# Altium schematic symbol library Fuses.SchLib: 3 symbols
Pins are listed as number, name and electrical type; pins without a type are passive.

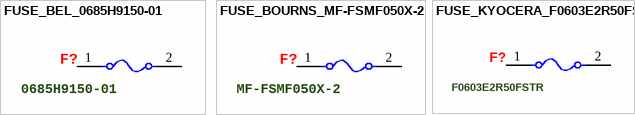
[diagram p0: symbols FUSE_BEL_0685H9150-01 to FUSE_KYOCERA_F0603E2R50FSTR]

## FUSE_BEL_0685H9150-01
designator F?, comment 0685H9150-01
Fuse 15 A 125 V AC 32 V DC Board Mount (Cartridge Style Excluded) Surface Mount 1206 (3216 Metric); Manufacturer: Bel; Current Rating: 15A; Voltage Rating (DC): 32V; Resistance: 2.6mR; Manufacturer Part Number: 0685H9150-01; Category: Fuses; Case/Package: 1206; Min Operating Temperature: -55°C; Max Operating Temperature: 125°C; RoHS Compliant: Yes; ComponentLink1URL: https://www.belfuse.com/resources/datasheets/circuitprotection/ds-cp-c1h-series.pdf; ComponentLink1Description: Datasheet; Supplier 1: Digi-Key; Supplier Part Number 1: 507-1944-1-ND
footprint FUSC3216X08N (Chip Fuse  2-Leads, Body 3.20x1.58mm, IPC Medium Density)
footprint FUSC3216X08L (Chip Fuse, 2-Leads, Body 3.20x1.58mm, IPC High Density)
footprint FUSC3216X08M (Chip Fuse, 2-Leads, Body 3.20x1.58mm, IPC Low Density)
simulation model Fuse (Model Description)
pins: 1 (power), 2 (power)

## FUSE_BOURNS_MF-FSMF050X-2
designator F?, comment MF-FSMF050X-2
Fuse Resettable Polymeric PTC 6V 500 mA Ih Surface Mount 0603 (1608 Metric), Concave; Manufacturer: Bourns; Current Rating: 40A; Resistance: 800mR; Manufacturer Part Number: MF-FSMF050X-2; Category: PTC Resettable Fuses; Case/Package: 0603; Min Operating Temperature: -40°C; Max Operating Temperature: 85°C; Voltage Rating (DC): 6V; RoHS Compliant: Yes; ComponentLink1URL: https://www.bourns.com/docs/Product-Datasheets/mffsmf.pdf; ComponentLink1Description: Datasheet; Supplier 1: Digi-Key; Supplier Part Number 1: MF-FSMF050X-2CT-ND; Supplier 2: Mouser; Supplier Part Number 2: 652-MFFSMF050X-2
footprint FUSC1608X10N (Chip Resistor, 2-Leads, Body 1.65x0.85mm, IPC Medium Density)
footprint FUSC1608X10L (Chip Resistor, 2-Leads, Body 1.65x0.85mm, IPC High Density)
footprint FUSC1608X10M (Chip Resistor, 2-Leads, Body 1.65x0.85mm, IPC Low Density)
simulation model Fuse (Model Description)
pins: 1 (power), 2 (power)

## FUSE_KYOCERA_F0603E2R50FSTR
designator F?, comment F0603E2R50FSTR
Fuse 2.5 A 32 V DC Board Mount (Cartridge Style Excluded) Surface Mount 0603 (1608 Metric); Manufacturer: Kyocera AVX; Current Rating: 2.5A; Voltage Rating (DC): 32V; Resistance: 35mR; Manufacturer Part Number: F0603E2R50FSTR; Category: Fuses; Case/Package: 0603; Min Operating Temperature: -55°C; Max Operating Temperature: 125°C; RoHS Compliant: Yes; ComponentLink1URL: https://datasheets.kyocera-avx.com/AccuGuard2.pdf; ComponentLink1Description: Datasheet; Supplier 1: Mouser; Supplier Part Number 1: 581-F0603E2R50FSTR
footprint FUSC_KYOCERA-ACCUGUARDII_0603 (Thin Film Fuse, Size 0603, Accu-Guard II Series)
simulation model Fuse (Model Description)
pins: 1 (power), 2 (power)